# EAGLE library part BNO055-BREAKOUT (library 1_Robo-Lib)
BNO055-Breakout
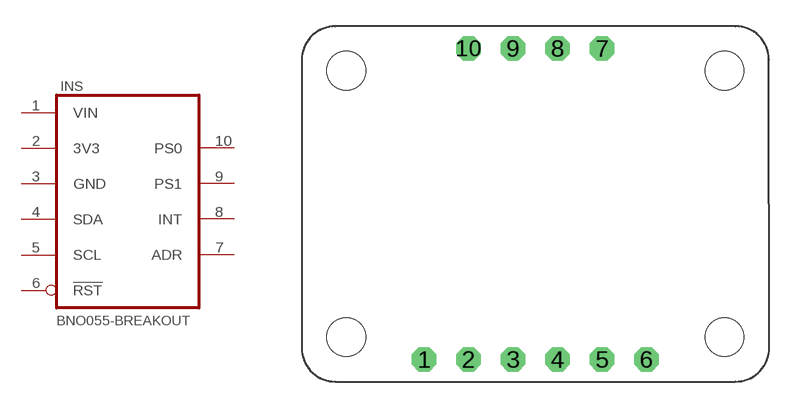
[diagram p19: symbol with the pads of BNO055-BREAKOUT; footprint BNO055-BREAKOUT]

Designator prefix INS

## BNO055-BREAKOUT  [BNO055-BREAKOUT]
1  VIN
2  3V3
3  GND
4  SDA
5  SCL
6  !RST
7  ADR
8  INT
9  PS1
10  PS0

## Footprint BNO055-BREAKOUT (pad centres in mm)
drill 0.9 octagon: 1 -6.35,-8.89; 2 -3.81,-8.89; 3 -1.27,-8.89; 4 1.27,-8.89; 5 3.81,-8.89; 6 6.35,-8.89; 7 3.81,8.89; 8 1.27,8.89; 9 -1.27,8.89; 10 -3.81,8.89
hole 2.2 at -10.795,7.62
hole 2.2 at 10.795,7.62
hole 2.2 at 10.795,-7.62
hole 2.2 at -10.795,-7.62